# Altium footprint library MMCX-J-P-H-ST-SM1.PcbLib: 1 footprints
Each footprint in its own frame and in the unit in brackets; x right, y up, seen from the top. Pads: shape width x height; smd on the part's side, far side on the other; paste and mask are expansions set on the pad; w line width, h text height; cw(c..) or ccw(c..) is an arc to the next point about the centre after c.
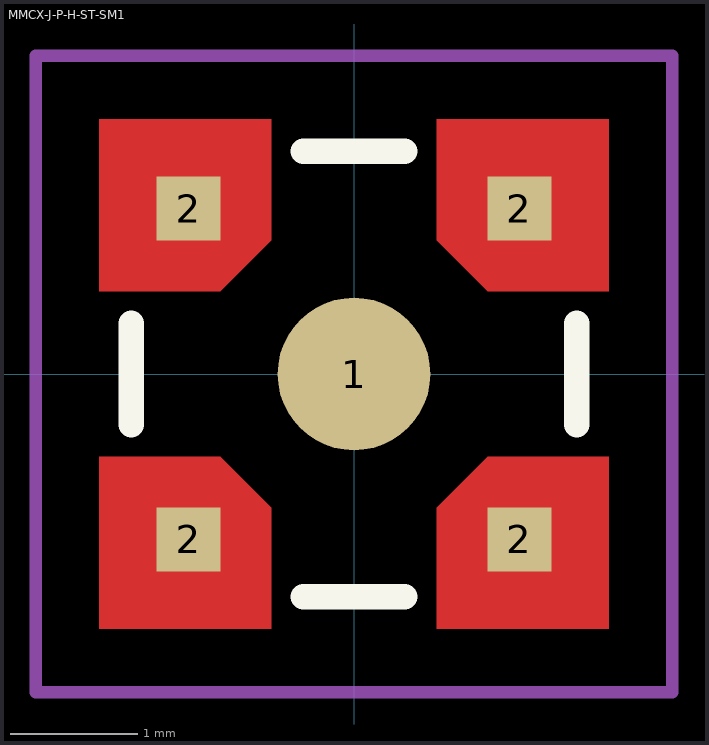
[diagram p0: the footprint, top view; thin cyan lines are the x and y axes]

## MMCX-J-P-H-ST-SM1 [mm]
pads (5):
  round 1.2 smd: 1(0,0)
  rect 0.5x0.5 smd paste-1 mask+0: 2(-1.3,-1.3) 2(-1.3,1.3) 2(1.3,-1.3)
  rect 0.5x0.5 smd paste-0.25 mask+0: 2(1.3,1.3)
Top Layer:
  region: -0.65,-2 -0.65,-1.05 -1.05,-0.65 -2,-0.65 -2,-2
  region: -2,0.65 -1.05,0.65 -0.65,1.05 -0.65,2 -2,2
  region: 0.65,2 0.65,1.05 1.05,0.65 2,0.65 2,2
  region: 2,-0.65 1.05,-0.65 0.65,-1.05 0.65,-2 2,-2
Top Overlay:
  lines w0.2: -1.75,-0.4 -1.75,0.4 ; -0.4,-1.75 0.4,-1.75 ; -0.4,1.75 0.4,1.75 ; 1.75,-0.4 1.75,0.4
Top Courtyard:
  lines w0.1: -2.5,-2.5 -2.5,2.5 2.5,2.5 2.5,-2.5 -2.5,-2.5
3D body "MMCX-J-P-H-ST-SM1-K.stp": height 5, standoff 0, extent -1.725,-1.75 1.725,1.75